# Altium schematic symbol library AUR9811D.SchLib: 1 symbol
Pins are listed as number, name and electrical type; pins without a type are passive.

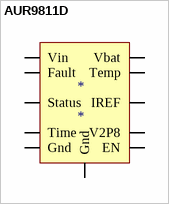
[diagram p0: symbol AUR9811D]

## AUR9811D
designator *
AUR9811D
footprint AUR9811D (PQFN, 10-Leads, Body 4.00x4.00mm)
pins: 1 Vin, 2 Fault, 3 Status, 4 Time, 5 Gnd, 6 EN, 7 V2P8, 8 IREF, 9 Temp, 10 Vbat, 11 Gnd